# Altium footprint library resistors.PcbLib: 2 footprints
Each footprint in its own frame and in the unit in brackets; x right, y up, seen from the top. Pads: shape width x height; smd on the part's side, far side on the other; paste and mask are expansions set on the pad; w line width, h text height; cw(c..) or ccw(c..) is an arc to the next point about the centre after c.
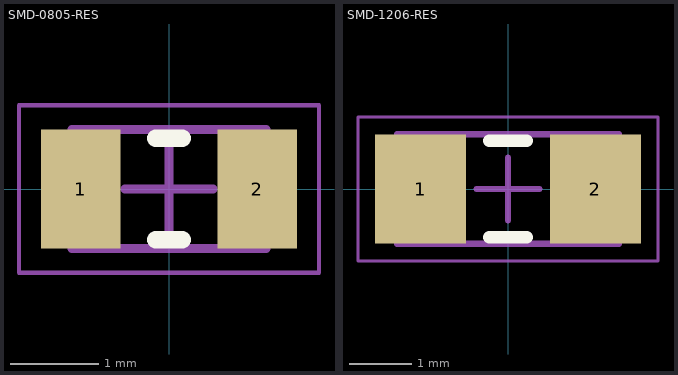
[diagram p0: the footprints below, top view; thin cyan lines are the x and y axes]

## SMD-0805-RES [mm]
pads (2):
  rect 0.9x1.35 smd: 1(-1,0) 2(1,0)
Top Overlay:
  lines w0.2: -0.15,-0.575 0.15,-0.575 ; -0.15,0.575 0.15,0.575
Mechanical 13:
  lines w0.1: -1.1,-0.675 1.1,-0.675 1.1,0.675 -1.1,0.675 -1.1,-0.675
Mechanical 15:
  lines w0.05: -1.7,-0.95 1.7,-0.95 1.7,0.95 -1.7,0.95 -1.7,-0.95
  lines w0.1: -0.5,0 0.5,0 ; 0,-0.5 0,0.5
3D body "RESC2012X05N.step": height 0.5, standoff 0, extent -1.1,-0.675 1.1,0.675

## SMD-1206-RES [mm]
pads (2):
  rect 1.45x1.75 smd: 1(-1.4,0) 2(1.4,0)
Top Overlay:
  lines w0.2: -0.3,-0.775 0.3,-0.775 ; -0.3,0.775 0.3,0.775
Mechanical 13:
  lines w0.1: -1.775,-0.875 -1.775,0.875 1.775,0.875 1.775,-0.875 -1.775,-0.875
Mechanical 15:
  lines w0.05: -2.4,-1.15 -2.4,1.15 2.4,1.15 2.4,-1.15 -2.4,-1.15
  lines w0.1: -0.5,0 0.5,0 ; 0,-0.5 0,0.5
3D body "RESC3216X05N.step": height 0.5, standoff 0, extent -1.775,-0.875 1.775,0.875